# Altium footprint library Lite-On.PcbLib: 2 footprints
Each footprint in its own frame and in the unit in brackets; x right, y up, seen from the top. Pads: shape width x height; smd on the part's side, far side on the other; paste and mask are expansions set on the pad; w line width, h text height; cw(c..) or ccw(c..) is an arc to the next point about the centre after c.
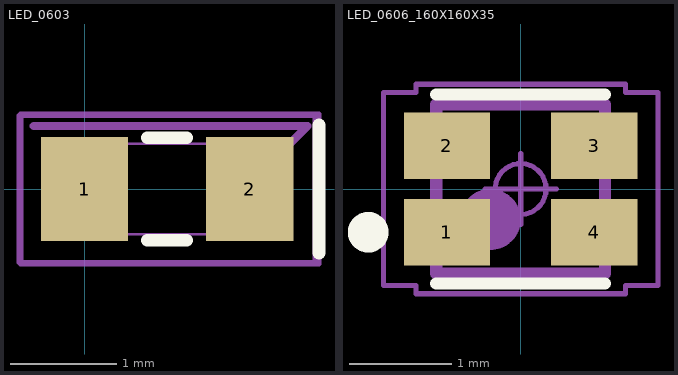
[diagram p0: the footprints below, top view; thin cyan lines are the x and y axes]

## LED_0603 [mm]
pads (2):
  rect 0.82x0.98 smd: 1(0,0) 2(1.55,0)
Top Overlay:
  lines w0.12: 0.59,-0.48 0.96,-0.48 ; 0.59,0.48 0.96,0.48 ; 2.2,-0.6 2.2,0.6
Assembly Top:
  lines w0.051: -0.6,-0.7 2.2,-0.7 2.2,0.7 -0.6,0.7 -0.6,-0.7
  lines w0.076: -0.476,0.592 2.092,0.592 1.9,0.4
  text ".designator" at -0.4,-0.5 h1.02
3D Top:
  lines w0.025: -0.025,-0.425 -0.025,0.425 ; -0.025,-0.425 0.275,-0.425 0.275,0.425 -0.025,0.425 ; -0.025,-0.425 1.575,-0.425 ; -0.025,-0.425 -0.025,0.425 ; -0.025,0.425 1.575,0.425 ; 1.575,-0.425 1.275,-0.425 1.275,0.425 1.575,0.425 ; 1.575,-0.425 1.575,0.425 ; 1.575,-0.425 1.575,0.425
Courtyard Top:
  circle w0.05: c0,0 r0.25
  lines w0.05: -0.345,0 0.345,0 ; 0,-0.345 0,0.345 ; -0.615,-0.69 2.165,-0.69 2.165,0.69 -0.615,0.69 -0.615,-0.69
3D body: height 0.6, standoff 0, extent -0.01,-0.4 1.61,0.4

## LED_0606_160X160X35 [mm]
height 0.35
pads (4):
  rect 0.85x0.65 smd: 1(-0.725,-0.425) 2(-0.725,0.425) 3(0.725,0.425) 4(0.725,-0.425)
Top Overlay:
  circle w0.2: c-1.5,-0.425 r0.1
  lines w0.12: -0.83,-0.93 0.83,-0.93 ; -0.83,0.93 0.83,0.93
Assembly Top:
  circle w0.3: c-0.3,-0.3 r0.15
  lines w0.12: -0.83,-0.83 0.83,-0.83 0.83,0.83 -0.83,0.83 -0.83,-0.83
3D Top:
  lines w0.025: -0.8,-0.8 0.8,-0.8 0.8,0.8 -0.8,0.8 -0.8,-0.8
Courtyard Top:
  circle w0.05: c0,0 r0.25
  lines w0.05: -0.35,0 0.35,0 ; 0,-0.35 0,0.35 ; -1.35,-0.95 -1.03,-0.95 -1.03,-1.03 1.03,-1.03 1.03,-0.95 1.35,-0.95 1.35,0.95 1.03,0.95 1.03,1.03 -1.03,1.03 -1.03,0.95 -1.35,0.95 -1.35,-0.95
3D body: height 0.34, standoff -0.01, extent -0.8,-0.75 0.8,0.75